# EAGLE library part SMD-BLACK-MALE-HEADER-R/A(10P-2.0) (library Seeed-OPL-Connector)
320020036
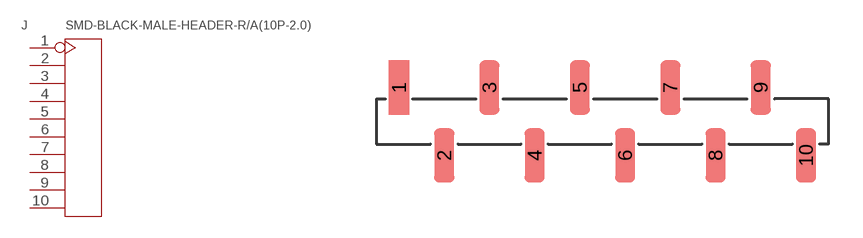
[diagram p104: symbol with the pads of H10-SMD-2.0; footprint H10-SMD-2.0]

Designator prefix J

## SMD-BLACK-MALE-HEADER-R/A(10P-2.0) (MPN: P120-1110A0BMB116D2; VALUE: 10p-2.0)  [H10-SMD-2.0]
1  1
2  2
3  3
4  4
5  5
6  6
7  7
8  8
9  9
10  10

## Footprint H10-SMD-2.0 (pad centres in mm)
smd 0.89 x 2.4: 1 -9,1.5; 2 -7,-1.5; 3 -5,1.5; 4 -3,-1.5; 5 -1,1.5; 6 1,-1.5; 7 3,1.5; 8 5,-1.5; 9 7,1.5; 10 9,-1.5